# Altium schematic symbol library MS8607-02BA01.SchLib: 1 symbol
Pins are listed as number, name and electrical type; pins without a type are passive.

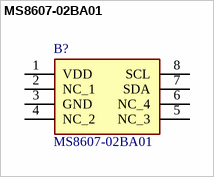
[diagram p0: symbol MS8607-02BA01]

## MS8607-02BA01
designator B?
PHT Combination Sensor QFN package 5 x 3 x 1 mm3; Manufacturer_Name: TE Connectivity; Geometry.Height: 1mm; Manufacturer_Part_Number: MS8607-02BA01; Mouser Part Number: N/A; Mouser Price/Stock: https://www.mouser.co.uk/ProductDetail/TE-Connectivity/MS8607-02BA01?qs=DRkmTr78QARZ5izyG9yiPQ%3D%3D; Arrow Part Number: *; Arrow Price/Stock: *; Mouser Testing Part Number: *; Mouser Testing Price/Stock: *; Datasheet Link: https://www.datasheet5.com/part/MS8607-02BA01/TE%20Connectivity%20Ltd
footprint MS860702BA01
pins: 1 VDD, 2 NC_1, 3 GND, 4 NC_2, 5 NC_3, 6 NC_4, 7 SDA, 8 SCL